# EAGLE library part FFKV8 (library con-phoenix-508)
PHOENIX
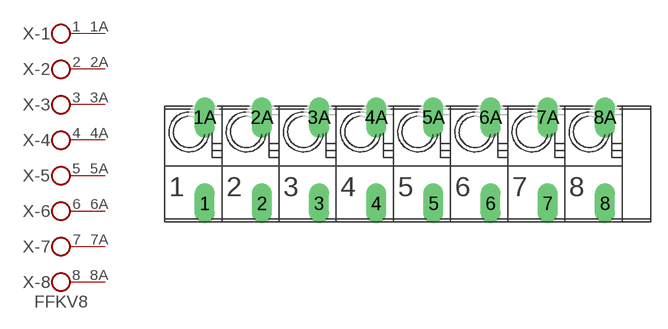
[diagram p19: symbol with the pads of FFKV8; footprint FFKV8]

Designator prefix X; gates -1=KL2 -2=KL2 -3=KL2 -4=KL2 -5=KL2 -6=KL2 -7=KL2 -8=KL2V

## FFKV8 (OC_FARNELL: unknown; OC_NEWARK: unknown)  [FFKV8]
1  -1:1  pas
1A  -1:2  pas
2  -2:1  pas
2A  -2:2  pas
3  -3:1  pas
3A  -3:2  pas
4  -4:1  pas
4A  -4:2  pas
5  -5:1  pas
5A  -5:2  pas
6  -6:1  pas
6A  -6:2  pas
7  -7:1  pas
7A  -7:2  pas
8  -8:1  pas
8A  -8:2  pas

## Footprint FFKV8 (pad centres in mm)
PHOENIX
drill 1.194 long: 1 -17.78,-3.81; 1A -17.78,3.81; 2 -12.7,-3.81; 2A -12.7,3.81; 3 -7.62,-3.81; 3A -7.62,3.81; 4 -2.54,-3.81; 4A -2.54,3.81; 5 2.54,-3.81; 5A 2.54,3.81; 6 7.62,-3.81; 6A 7.62,3.81; 7 12.7,-3.81; 7A 12.7,3.81; 8 17.78,-3.81; 8A 17.78,3.81